# Altium footprint library BGT24LTR11_RF-Shield_Board_V3.0.PcbLib: 31 footprints (part 1 of 2)
Each footprint in its own frame and in the unit in brackets; x right, y up, seen from the top. Pads: shape width x height; smd on the part's side, far side on the other; paste and mask are expansions set on the pad; w line width, h text height; cw(c..) or ccw(c..) is an arc to the next point about the centre after c.
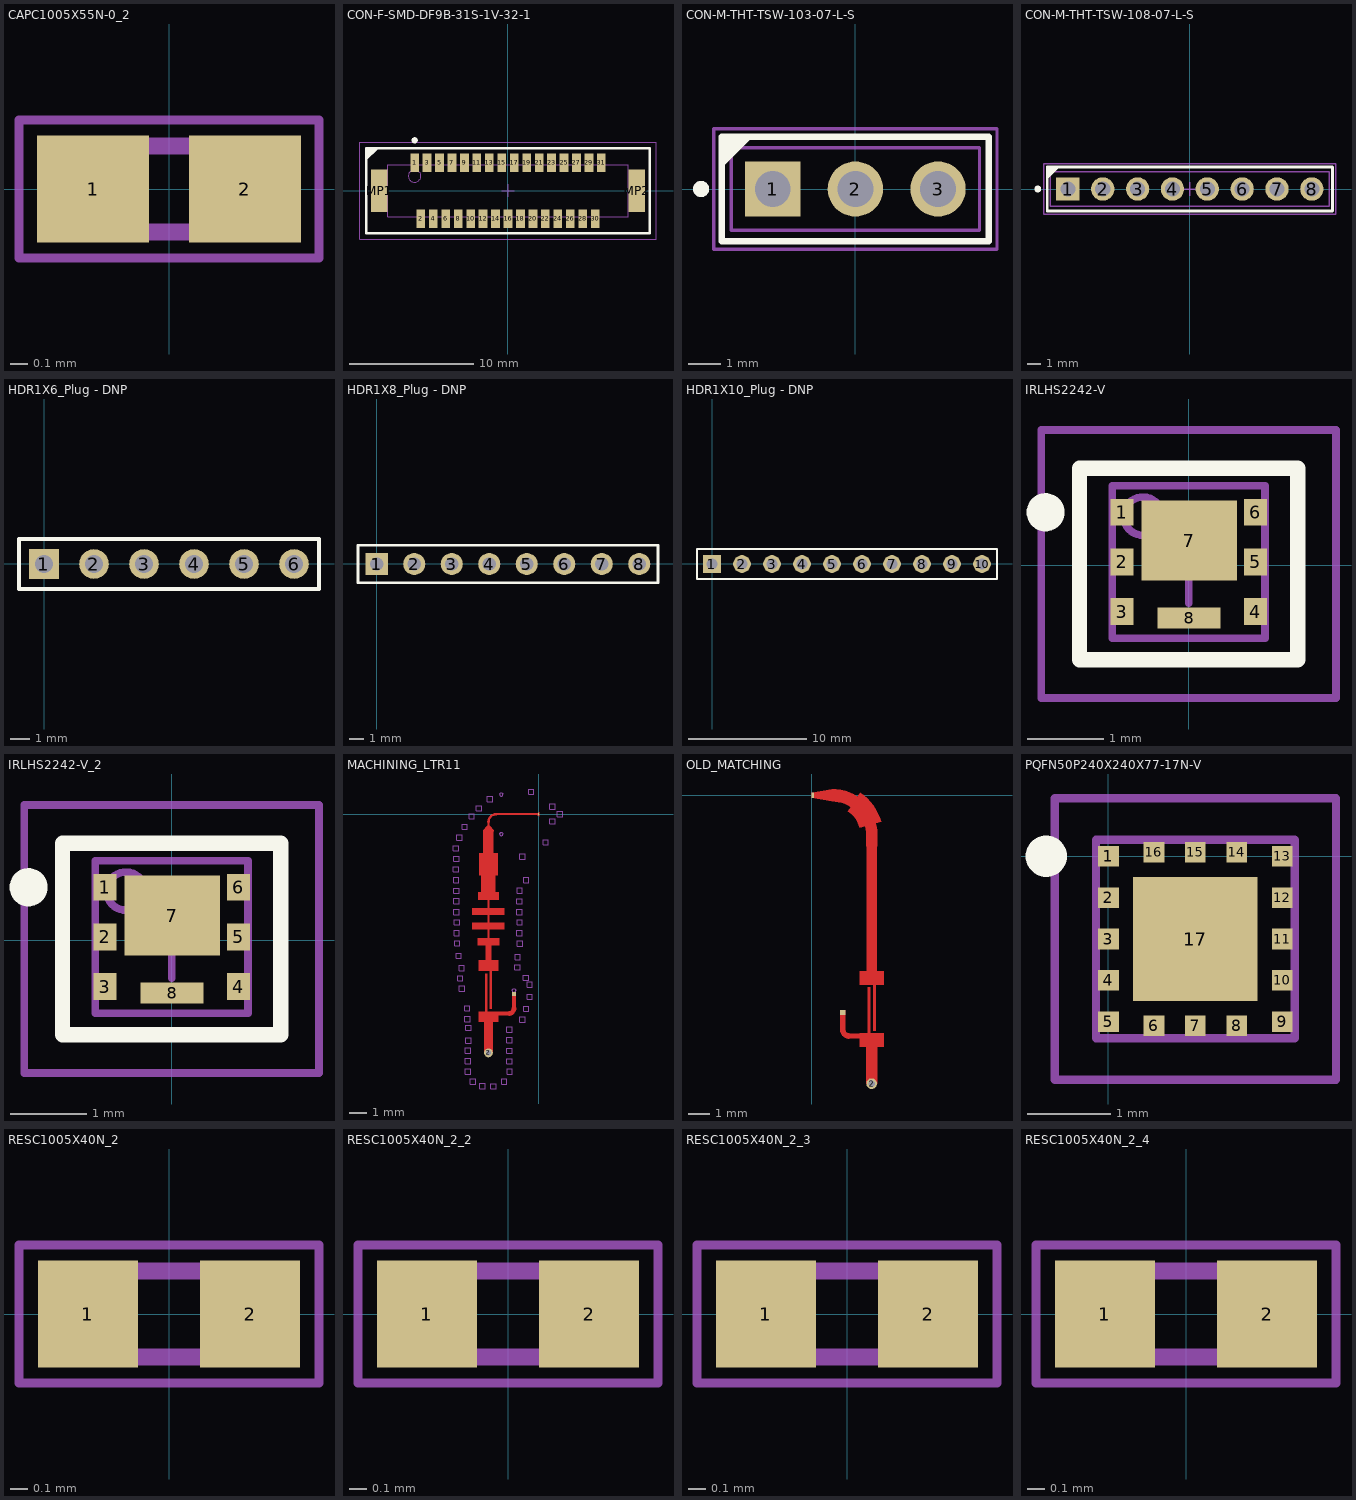
[diagram p0: the footprints below, top view; thin cyan lines are the x and y axes]

## CAPC1005X55N-0_2 [mm]
pads (2):
  rect 0.65x0.62 smd: 1(-0.44,0) 2(0.44,0)
Mechanical 13:
  lines w0.1: -0.5,-0.25 -0.5,0.25 0.5,0.25 0.5,-0.25 -0.5,-0.25
Mechanical 15:
  lines w0.05: -0.87,-0.4 0.87,-0.4 0.87,0.4 -0.87,0.4 -0.87,-0.4
3D body: height 0.55, standoff 0, extent -0.249,-0.249 0.25,0.25
3D body: height 0.55, standoff 0, extent -0.498,-0.249 -0.249,0.25
3D body: height 0.55, standoff 0, extent 0.25,-0.249 0.499,0.25

## CON-F-SMD-DF9B-31S-1V-32-1 [mm] "Connector, SMD; 1.00 mm pitch, 31 pin, 19.30 mm L X 4.20 mm W X 3.50 mm H body"
height 3.5
pads (33):
  rect 0.7x1.5 smd paste+0 mask+0: 1(-7.5,2.25) 2(-7,-2.25) 3(-6.5,2.25) 4(-6,-2.25) 5(-5.5,2.25) 6(-5,-2.25) 7(-4.5,2.25) 8(-4,-2.25) 9(-3.5,2.25) 10(-3,-2.25) 11(-2.5,2.25) 12(-2,-2.25) 13(-1.5,2.25) 14(-1,-2.25) 15(-0.5,2.25) 16(0,-2.25) 17(0.5,2.25) 18(1,-2.25) 19(1.5,2.25) 20(2,-2.25) 21(2.5,2.25) 22(3,-2.25) 23(3.5,2.25) 24(4,-2.25) 25(4.5,2.25) 26(5,-2.25) 27(5.5,2.25) 28(6,-2.25) 29(6.5,2.25) 30(7,-2.25) 31(7.5,2.25)
  rect 1.3x3.4 smd paste+0 mask+0: MP1(-10.35,0) MP2(10.35,0)
Top Overlay:
  circle w0.25: c-7.5,4.05 r0.125
  lines w0.2: -11.399,2.539 -10.538,3.4 ; -11.399,2.739 -10.738,3.4 ; -11.399,2.939 -10.938,3.4 ; -11.399,3.139 -11.138,3.4 ; -11.4,-3.4 11.4,-3.4 11.4,3.4 -11.4,3.4 -11.4,-3.4
Mechanical 3:
  text ".DESIGNATOR" at 0,0 h1.2
Mechanical 13:
  circle w0.1: c-7.5,1.18 r0.5
  lines w0.1: -9.65,-2.1 9.65,-2.1 9.65,2.1 -9.65,2.1 -9.65,-2.1
Mechanical 15:
  lines w0.1: -0.5,0 0.5,0 ; 0,-0.5 0,0.5 ; -11.9,-3.9 11.9,-3.9 11.9,3.9 -11.9,3.9 -11.9,-3.9
3D body "DF9B-31S-1V.stp": height 3.3, standoff 0, extent -10.55,-2.8 10.55,2.8

## CON-M-THT-TSW-103-07-L-S [mm] "Header,vertical,2.54mm pitch;0.64mm lead width,3 pins,1 row,3 pins per row,7.62mm L X 2.54mm W X 8.636mm H body"
height 8.636
pads (3):
  rect 1.7x1.7 hole 1.1 paste+0 mask+0: 1(-2.54,0)
  round 1.7 hole 1.1 paste+0 mask+0: 2(0,0) 3(2.54,0)
Top Overlay:
  circle w0.25: c-4.74,0 r0.125
  lines w0.2: -4.1,0.8 -3.3,1.6 ; -4.1,1 -3.5,1.6 ; -4.1,1.2 -3.7,1.6 ; -4.1,1.4 -3.9,1.6 ; -4.1,-1.6 -4.1,1.6 4.1,1.6 4.1,-1.6 -4.1,-1.6
Mechanical 3:
  text ".DESIGNATOR" at 0,0 h1.2
Mechanical 13:
  lines w0.1: -3.81,-1.27 3.81,-1.27 3.81,1.27 -3.81,1.27 -3.81,-1.27
Mechanical 15:
  lines w0.1: -0.5,0 0.5,0 ; 0,-0.5 0,0.5 ; -4.35,-1.85 -4.35,1.85 4.35,1.85 4.35,-1.85 -4.35,-1.85

## CON-M-THT-TSW-108-07-L-S [mm] "Header,vertical,2.54mm pitch;0.64mm lead width,8 pins,1 row,8 pins per row,20.32mm L X 2.54mm W X 8.636mm H body"
height 8.636
pads (8):
  rect 1.7x1.7 hole 1.1 paste+0 mask+0: 1(-8.89,0)
  round 1.7 hole 1.1 paste+0 mask+0: 2(-6.35,0) 3(-3.81,0) 4(-1.27,0) 5(1.27,0) 6(3.81,0) 7(6.35,0) 8(8.89,0)
Top Overlay:
  circle w0.25: c-11.09,0 r0.125
  lines w0.2: -10.4,0.8 -9.6,1.6 ; -10.4,1 -9.8,1.6 ; -10.4,1.2 -10,1.6 ; -10.4,1.4 -10.2,1.6 ; -10.4,-1.6 -10.4,1.6 10.4,1.6 10.4,-1.6 -10.4,-1.6
Mechanical 3:
  text ".DESIGNATOR" at 0,0 h1.2
Mechanical 13:
  lines w0.1: -10.16,-1.27 10.16,-1.27 10.16,1.27 -10.16,1.27 -10.16,-1.27
Mechanical 15:
  lines w0.1: -0.5,0 0.5,0 ; 0,-0.5 0,0.5 ; -10.65,-1.85 -10.65,1.85 10.65,1.85 10.65,-1.85 -10.65,-1.85
3D body "TSW-108-07-L-S.stp": height 8.38, standoff -2.54, extent -10.287,-1.27 10.16,1.27

## HDR1X6_Plug - DNP [mm] "Connector; Header; 6 Position"
height 1
pads (6):
  rect 1.5x1.5 hole 0.9: 1(0,0)
  round 1.5 hole 0.9: 2(2.54,0) 3(5.08,0) 4(7.62,0) 5(10.16,0) 6(12.7,0)
Top Overlay:
  lines w0.2: -1.27,-1.27 13.97,-1.27 13.97,1.27 -1.27,1.27 -1.27,-1.27

## HDR1X8_Plug - DNP [mm] "Connector; Header; 8 Position"
height 1
pads (8):
  rect 1.5x1.5 hole 0.9: 1(0,0)
  round 1.5 hole 0.9: 2(2.54,0) 3(5.08,0) 4(7.62,0) 5(10.16,0) 6(12.7,0) 7(15.24,0) 8(17.78,0)
Top Overlay:
  lines w0.2: -1.27,-1.27 -1.27,1.27 19.05,1.27 19.05,-1.27 -1.27,-1.27

## HDR1X10_Plug - DNP [mm] "Connector; Header; 10 Position"
height 1
pads (10):
  rect 1.5x1.5 hole 0.9: 1(0,0)
  round 1.5 hole 0.9: 2(2.54,0) 3(5.08,0) 4(7.62,0) 5(10.16,0) 6(12.7,0) 7(15.24,0) 8(17.78,0) 9(20.32,0) 10(22.86,0)
Top Overlay:
  lines w0.2: -1.27,-1.27 0.635,-1.27 24.13,-1.27 24.13,1.27 -1.27,1.27 -1.27,-1.27

## IRLHS2242-V [mm] "PQFN, 0.65mm Pitch, 8 Pin, 2mm L X 2mm W X 1mm H body"
height 1
pads (8):
  rect 0.3x0.35 smd paste-0.35 mask+0: 1(-0.875,0.693) 2(-0.875,0.042) 3(-0.875,-0.608) 4(0.875,-0.608) 5(0.875,0.042) 6(0.875,0.693)
  rect 1.25x1.05 smd paste-1.25 mask+0: 7(0.005,0.323)
  rect 0.83x0.28 smd paste-0.83 mask+0: 8(0.005,-0.692)
Top Overlay:
  circle w0.25: c-1.875,0.693 r0.125
  lines w0.2: -1.43,-1.24 1.43,-1.24 1.43,1.27 -1.43,1.27 -1.43,-1.24
Top Paste:
  region: 0.13,0.838 0.62,0.838 0.62,-0.192 0.13,-0.192
  region: -0.12,-0.192 -0.61,-0.192 -0.61,0.838 -0.12,0.838
  region: 0.41,-0.562 0.41,-0.822 -0.4,-0.822 -0.4,-0.562
  region: -0.735,0.857 -0.735,0.527 -1.015,0.527 -1.015,0.857
  region: -0.735,0.207 -0.735,-0.123 -1.015,-0.123 -1.015,0.207
  region: -0.735,-0.443 -0.735,-0.773 -1.015,-0.773 -1.015,-0.443
  region: 1.015,-0.443 1.015,-0.773 0.735,-0.773 0.735,-0.443
  region: 1.015,0.207 1.015,-0.123 0.735,-0.123 0.735,0.207
  region: 1.015,0.857 1.015,0.527 0.735,0.527 0.735,0.857
Mechanical 3:
  text ".DESIGNATOR" at 0,0 h1.2
Mechanical 13:
  circle w0.1: c-0.6,0.642 r0.25
  lines w0.1: -1,-0.958 1,-0.958 1,1.042 -1,1.042 -1,-0.958
Mechanical 15:
  lines w0.1: -0.5,0 0.5,0 ; 0,-0.5 0,0.5 ; -1.93,-1.74 -1.93,1.77 1.93,1.77 1.93,-1.74 -1.93,-1.74
3D body "PQFN-6-X1.stp": height 1.01, standoff 0, extent -1,-0.958 1,1.042

## IRLHS2242-V_2 [mm]
pads (8):
  rect 0.3x0.35 smd paste-0.35 mask+0: 1(-0.875,0.692) 2(-0.875,0.042) 3(-0.875,-0.608) 4(0.875,-0.608) 5(0.875,0.042) 6(0.875,0.692)
  rect 1.25x1.05 smd paste-1.25 mask+0: 7(0.005,0.322)
  rect 0.83x0.28 smd paste-0.83 mask+0: 8(0.005,-0.692)
Top Overlay:
  circle w0.25: c-1.875,0.693 r0.125
  lines w0.2: -1.43,-1.24 -1.43,1.27 1.43,1.27 1.43,-1.24 -1.43,-1.24
Top Paste:
  region: 1.015,0.857 1.015,0.527 0.735,0.527 0.735,0.857
  region: 1.015,0.207 1.015,-0.123 0.735,-0.123 0.735,0.207
  region: 1.015,-0.443 1.015,-0.773 0.735,-0.773 0.735,-0.443
  region: -0.735,-0.443 -0.735,-0.773 -1.015,-0.773 -1.015,-0.443
  region: -0.735,0.207 -0.735,-0.122 -1.015,-0.123 -1.015,0.207
  region: -0.735,0.857 -0.735,0.527 -1.015,0.527 -1.015,0.857
  region: 0.41,-0.562 0.41,-0.822 -0.4,-0.822 -0.4,-0.562
  region: -0.12,-0.192 -0.61,-0.192 -0.61,0.838 -0.12,0.838
  region: 0.13,0.838 0.62,0.838 0.62,-0.192 0.13,-0.192
Mechanical 4:
  text ".DESIGNATOR" at 0,0 h0.7
Mechanical 13:
  circle w0.1: c-0.6,0.642 r0.25
  lines w0.1: -1,-0.958 -1,1.042 1,1.042 1,-0.958 -1,-0.958
Mechanical 15:
  lines w0.1: -0.5,0 0.5,0 ; 0,-0.5 0,0.5 ; -1.93,-1.74 1.93,-1.74 1.93,1.77 -1.93,1.77 -1.93,-1.74
3D body "PQFN-6-X1.stp": height 1.01, standoff 0, extent -1,-0.958 1,1.042

## MACHINING_LTR11 [mm]
pads (3):
  rect 0.06x0.12 smd mask+0.051: 1(0,0)
  round 0.5 / inner round 0 / far side round 0.5 hole 0.3: 2(-2.843,-13.546)
  rect 0.25x0.25 smd mask+0.051: 3(-1.392,-10.204)
Top Layer:
  rectangle: -2.402,-0.056 -0.045,0.064
  rectangle: -3.412,-11.806 -2.272,-11.186
  rectangle: -3.102,-13.545 -2.582,-11.755
  rectangle: -3.032,-11.222 -2.906,-9.026
  rectangle: -2.779,-11.056 -2.652,-8.86
  rectangle: -3.412,-8.896 -2.272,-8.276
  rectangle: -3.017,-8.301 -2.667,-7.412
  rectangle: -3.457,-7.446 -2.227,-7.016
  rectangle: -2.892,-7.031 -2.792,-6.523
  rectangle: -3.762,-6.546 -1.922,-6.156
  rectangle: -2.892,-6.193 -2.792,-5.685
  rectangle: -3.762,-5.716 -1.922,-5.326
  rectangle: -2.892,-5.355 -2.792,-4.821
  rectangle: -3.437,-4.855 -2.247,-4.426
  rectangle: -3.252,-4.44 -2.442,-3.45
  rectangle: -3.392,-3.486 -2.292,-2.196
  rectangle: -3.142,-2.23 -2.542,-0.896
  rectangle: -2.902,-0.681 -2.782,-0.436
  region: -1.692,-11.186 -2.292,-11.186 -2.292,-11.436 -1.692,-11.436
  region: -1.267,-10.079 -1.517,-10.079 -1.517,-11.011 -1.267,-11.011
  region: -2.402,-0.056 -2.382,-0.056 -2.382,0.064 -2.402,0.064 -2.435,0.064 -2.5,0.056 -2.563,0.039 -2.624,0.014 -2.68,-0.019 -2.732,-0.059 -2.779,-0.105 -2.819,-0.157 -2.851,-0.214 -2.877,-0.274 -2.894,-0.338 -2.902,-0.403 -2.902,-0.436 -2.902,-0.452 -2.782,-0.452 -2.782,-0.436 -2.781,-0.411 -2.775,-0.361 -2.762,-0.313 -2.743,-0.267 -2.718,-0.224 -2.688,-0.185 -2.653,-0.15 -2.613,-0.12 -2.57,-0.095 -2.524,-0.076 -2.476,-0.063 -2.427,-0.056
  region: -1.267,-11.011 -1.267,-11.039 -1.275,-11.095 -1.289,-11.149 -1.311,-11.201 -1.34,-11.25 -1.375,-11.295 -1.415,-11.334 -1.461,-11.368 -1.51,-11.396 -1.563,-11.416 -1.617,-11.43 -1.674,-11.436 -1.702,-11.435 -1.702,-11.185 -1.684,-11.185 -1.649,-11.18 -1.616,-11.168 -1.585,-11.149 -1.56,-11.125 -1.539,-11.096 -1.525,-11.063 -1.518,-11.028 -1.517,-11.011 -1.517,-10.993 -1.267,-10.993
  region: 0.03,-0.125 0.03,0.125 -0.072,0.064 -0.072,-0.056
  region: -3.142,-0.896 -3.142,-0.96 -2.542,-0.96 -2.542,-0.896 -2.782,-0.656 -2.902,-0.656
Mechanical 1:
  region: 0.006,-0.046
Mechanical 3:
  drawing of 328 lines, arcs and shapes, not listed

## OLD_MATCHING [mm]
pads (3):
  rect 0.1x0.25 smd mask+0: 1(0.052,0)
  round 0.5 / inner round 0 / far side round 0.5 hole 0.3: 2(2.816,-13.539)
  rect 0.25x0.25 smd mask+0.051: 3(1.458,-10.194)
Top Layer:
  rectangle: 1.333,-11.001 1.583,-10.069
  rectangle: 1.758,-11.426 2.358,-11.176
  region: 3.074,-2.362 2.567,-2.362 2.567,-8.484 3.074,-8.484
  region: 1.333,-11.001 1.333,-11.029 1.34,-11.085 1.355,-11.14 1.377,-11.192 1.406,-11.241 1.441,-11.285 1.481,-11.325 1.526,-11.358 1.576,-11.386 1.628,-11.407 1.683,-11.42 1.739,-11.426 1.768,-11.426 1.768,-11.176 1.75,-11.176 1.715,-11.171 1.681,-11.158 1.651,-11.14 1.625,-11.115 1.605,-11.086 1.591,-11.054 1.584,-11.019 1.583,-11.001 1.583,-10.984 1.333,-10.984
  region: 3.389,-8.264 3.389,-8.892 3.009,-8.892 3.009,-11.049 2.882,-11.049 2.882,-8.892 2.249,-8.892 2.249,-8.264
  region: 2.755,-9.019 2.755,-11.176 3.389,-11.176 3.389,-11.804 3.074,-11.804 3.074,-13.539 2.565,-13.539 2.565,-11.804 2.249,-11.804 2.249,-11.176 2.628,-11.176 2.628,-9.019
  region: 3.073,-1.658 3.051,-1.495 3.009,-1.308 3.259,-1.239 3.193,-1.035 3.109,-0.837 3.007,-0.648 2.889,-0.469 2.755,-0.301 2.607,-0.146 2.446,-0.004 2.272,0.122 2.146,-0.068 1.965,0.04 1.774,0.13 1.575,0.2 1.37,0.252 1.161,0.282 0.95,0.293 0,0.125 0,-0.125 0.95,-0.292 1.104,-0.3 1.256,-0.323 1.406,-0.36 1.551,-0.411 1.691,-0.477 1.824,-0.555 1.698,-0.745 1.796,-0.817 1.888,-0.897 1.972,-0.985 2.047,-1.08 2.114,-1.181 2.172,-1.288 2.219,-1.4 2.257,-1.515 2.508,-1.446 2.54,-1.587 2.559,-1.731 2.566,-1.875 2.565,-2.398 3.073,-2.398

## PQFN50P240X240X77-17N-V [mm] "PQFN,0.50mm pitch,square;16 pin,2.40mm L X 2.40mm W X 0.77mm H body (w/pullback leads,thermal tab)"
height 0.77
pads (17):
  rect 0.25x0.25 smd paste-0.25 mask+0: 1(0,0) 2(0,-0.5) 3(0,-1) 4(0,-1.5) 5(0,-2) 6(0.55,-2.05) 7(1.05,-2.05) 8(1.55,-2.05) 9(2.1,-2) 10(2.1,-1.5) 11(2.1,-1) 12(2.1,-0.5) 13(2.1,0) 14(1.55,0.05) 15(1.05,0.05) 16(0.55,0.05)
  rect 1.5x1.5 smd paste-1.5 mask+0: 17(1.05,-1)
Top Overlay:
  circle w0.25: c-0.75,0 r0.125
Top Paste:
  drawing of 17 lines, arcs and shapes, not listed
Mechanical 4:
  text ".DESIGNATOR" at 1.05,-1 h0.7
Mechanical 13:
  lines w0.1: -0.15,-2.2 -0.15,0.2 2.25,0.2 2.25,-2.2 -0.15,-2.2
Mechanical 15:
  lines w0.1: 0.55,-1 1.55,-1 ; 1.05,-1.5 1.05,-0.5 ; -0.65,-2.7 -0.65,0.7 2.75,0.7 2.75,-2.7 -0.65,-2.7
3D body "PG-TSNP-16-9_C66065-A0004-C376-01-0004.stp": height 0.77, standoff 0, extent -0.15,-2.2 2.25,0.2

## RESC1005X40N_2 [mm]
height 1.1
pads (2):
  rect 0.58x0.62 smd: 1(-0.47,0) 2(0.47,0)
Mechanical 13:
  lines w0.1: -0.5,-0.25 0.5,-0.25 0.5,0.25 -0.5,0.25 -0.5,-0.25
Mechanical 15:
  lines w0.05: -0.87,-0.4 -0.87,0.4 0.87,0.4 0.87,-0.4 -0.87,-0.4
3D body: height 0.3, standoff 0.05, extent -0.449,-0.249 0.449,0.249
3D body: height 0.3, standoff 0.05, extent 0.449,-0.249 0.498,0.249
3D body: height 0.3, standoff 0.05, extent -0.498,-0.25 -0.449,0.249
3D body: height 0.05, standoff 0, extent -0.498,-0.25 -0.249,0.249
3D body: height 0.35, standoff 0.3, extent -0.498,-0.25 -0.249,0.249
3D body: height 0.35, standoff 0.3, extent 0.249,-0.249 0.498,0.249
3D body: height 0.05, standoff 0, extent 0.249,-0.249 0.498,0.249
3D body: height 0.35, standoff 0.3, extent -0.249,-0.249 0.249,0.249

## RESC1005X40N_2_2 [mm]
pads (2):
  rect 0.58x0.62 smd: 1(-0.47,0) 2(0.47,0)
Mechanical 13:
  lines w0.1: -0.5,-0.25 -0.5,0.25 0.5,0.25 0.5,-0.25 -0.5,-0.25
Mechanical 15:
  lines w0.05: -0.87,-0.4 0.87,-0.4 0.87,0.4 -0.87,0.4 -0.87,-0.4
3D body: height 0.35, standoff 0.3, extent -0.249,-0.249 0.249,0.249
3D body: height 0.05, standoff 0, extent 0.249,-0.249 0.498,0.249
3D body: height 0.35, standoff 0.3, extent 0.249,-0.249 0.498,0.249
3D body: height 0.35, standoff 0.3, extent -0.498,-0.25 -0.249,0.249
3D body: height 0.05, standoff 0, extent -0.498,-0.25 -0.249,0.249
3D body: height 0.3, standoff 0.05, extent -0.498,-0.25 -0.449,0.249
3D body: height 0.3, standoff 0.05, extent 0.449,-0.249 0.498,0.249
3D body: height 0.3, standoff 0.05, extent -0.449,-0.249 0.449,0.249

## RESC1005X40N_2_3 [mm]
pads (2):
  rect 0.58x0.62 smd: 1(-0.47,0) 2(0.47,0)
Mechanical 13:
  lines w0.1: -0.5,-0.25 0.5,-0.25 0.5,0.25 -0.5,0.25 -0.5,-0.25
Mechanical 15:
  lines w0.05: -0.87,-0.4 -0.87,0.4 0.87,0.4 0.87,-0.4 -0.87,-0.4
3D body: height 0.3, standoff 0.05, extent -0.449,-0.249 0.449,0.249
3D body: height 0.3, standoff 0.05, extent 0.449,-0.249 0.498,0.249
3D body: height 0.3, standoff 0.05, extent -0.498,-0.25 -0.449,0.249
3D body: height 0.05, standoff 0, extent -0.498,-0.25 -0.249,0.249
3D body: height 0.35, standoff 0.3, extent -0.498,-0.25 -0.249,0.249
3D body: height 0.35, standoff 0.3, extent 0.249,-0.249 0.498,0.249
3D body: height 0.05, standoff 0, extent 0.249,-0.249 0.498,0.249
3D body: height 0.35, standoff 0.3, extent -0.249,-0.249 0.249,0.249

## RESC1005X40N_2_4 [mm]
pads (2):
  rect 0.58x0.62 smd: 1(-0.47,0) 2(0.47,0)
Mechanical 13:
  lines w0.1: -0.5,-0.25 0.5,-0.25 0.5,0.25 -0.5,0.25 -0.5,-0.25
Mechanical 15:
  lines w0.05: -0.87,-0.4 -0.87,0.4 0.87,0.4 0.87,-0.4 -0.87,-0.4
3D body: height 0.3, standoff 0.05, extent -0.449,-0.249 0.449,0.249
3D body: height 0.3, standoff 0.05, extent 0.449,-0.249 0.498,0.249
3D body: height 0.3, standoff 0.05, extent -0.498,-0.25 -0.449,0.249
3D body: height 0.05, standoff 0, extent -0.498,-0.25 -0.249,0.249
3D body: height 0.35, standoff 0.3, extent -0.498,-0.25 -0.249,0.249
3D body: height 0.35, standoff 0.3, extent 0.249,-0.249 0.498,0.249
3D body: height 0.05, standoff 0, extent 0.249,-0.249 0.498,0.249
3D body: height 0.35, standoff 0.3, extent -0.249,-0.249 0.249,0.249